# EAGLE library part RA8875_DRIVER_BOARD_FOR_40_PIN_TFT_TOUCH_DISPLAYS_800X480_MAX (library Adafruit)
RA8875 Driver Board for 40-pin TFT Touch Displays - 800x480 Max RA8875 Driver Board for 40-pin TFT Touch Displays - 800x480 Max Further information:http://adafru.it/1590 Cost:$34.95
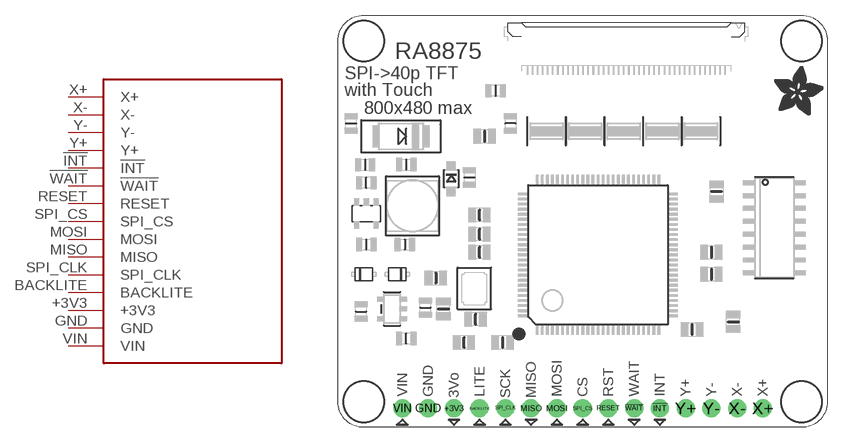
[diagram p2: symbol with the pads of RA8875_DRIVER_BOARD_FOR_40_PIN_TFT_TOUCH_DISPLAYS_800X480_MAX; footprint RA8875_DRIVER_BOARD_FOR_40_PIN_TFT_TOUCH_DISPLAYS_800X480_MAX]

Designator prefix -

## RA8875_DRIVER_BOARD_FOR_40_PIN_TFT_TOUCH_DISPLAYS_800X480_MAX-BOB  [RA8875_DRIVER_BOARD_FOR_40_PIN_TFT_TOUCH_DISPLAYS_800X480_MAX]
!INT  !INT
!WAIT  !WAIT
+3V3  +3V3
BACKLITE  BACKLITE
GND  GND
MISO  MISO
MOSI  MOSI
RESET  RESET
SPI_CLK  SPI_CLK
SPI_CS  SPI_CS
VIN  VIN
X+  X+
X-  X-
Y+  Y+
Y-  Y-

## Footprint RA8875_DRIVER_BOARD_FOR_40_PIN_TFT_TOUCH_DISPLAYS_800X480_MAX (pad centres in mm)
drill 1.016 pad 1.778: !INT 31.75,1.905; !WAIT 29.21,1.905; +3V3 11.43,1.905; BACKLITE 13.97,1.905; GND 8.89,1.905; MISO 19.05,1.905; MOSI 21.59,1.905; RESET 26.67,1.905; SPI_CLK 16.51,1.905; SPI_CS 24.13,1.905; VIN 6.35,1.905; X+ 41.91,1.905; X- 39.37,1.905; Y+ 34.29,1.905; Y- 36.83,1.905